# Altium schematic symbol library CL21A476MQYNNNE.SchLib: 1 symbol
Pins are listed as number, name and electrical type; pins without a type are passive.

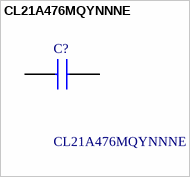
[diagram p0: symbol CL21A476MQYNNNE]

## CL21A476MQYNNNE
designator C?
Cap Ceramic 47uF 6.3V X5R 20% Pad SMD 0805 85C T/R; Manufacturer_Name: SAMSUNG; Geometry.Height: 1.35mm; Manufacturer_Part_Number: CL21A476MQYNNNE; Mouser Part Number: 187-CL21A476MQYNNNE; Mouser Price/Stock: https://www.mouser.co.uk/ProductDetail/Samsung-Electro-Mechanics/CL21A476MQYNNNE?qs=yOVawPpwOwkBQMdcEdF9JA%3D%3D; Arrow Part Number: CL21A476MQYNNNE; Arrow Price/Stock: https://www.arrow.com/en/products/cl21a476mqynnne/samsung-electro-mechanics?region=nac; Datasheet Link: https://media.digikey.com/pdf/Data%20Sheets/Samsung%20PDFs/CL_Series_MLCC_ds.pdf
footprint CAPC2012X135N
pins: 1, 2